# Altium footprint library TPS62A01.PcbLib: 1 footprints
Each footprint in its own frame and in the unit in brackets; x right, y up, seen from the top. Pads: shape width x height; smd on the part's side, far side on the other; paste and mask are expansions set on the pad; w line width, h text height; cw(c..) or ccw(c..) is an arc to the next point about the centre after c.
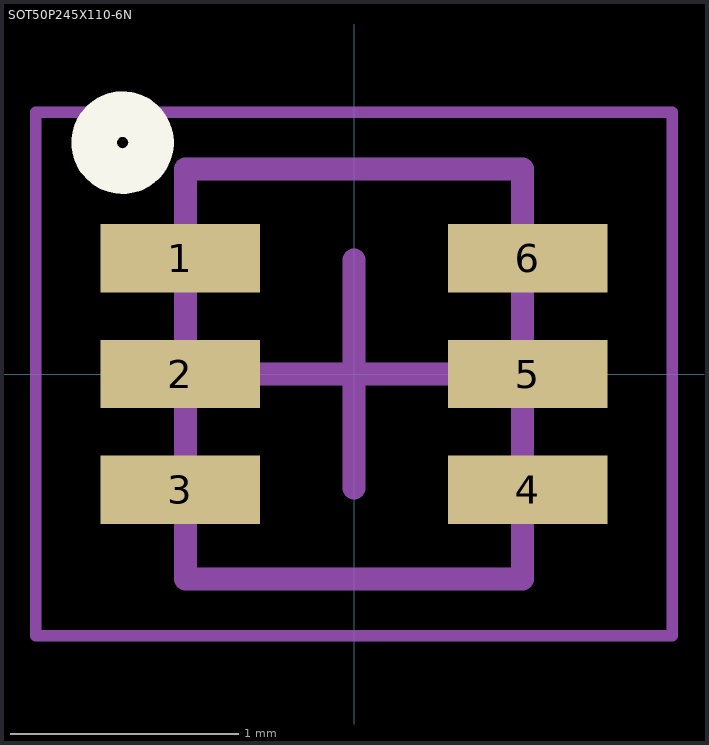
[diagram p0: the footprint, top view; thin cyan lines are the x and y axes]

## SOT50P245X110-6N [mm] "SOT23, 6-Leads, Body 1.80x2.45mm, Pitch 0.50mm, IPC Medium Density"
height 1.1
pads (6):
  rect 0.7x0.3 smd: 1(-0.762,0.508) 2(-0.762,0) 3(-0.762,-0.508) 4(0.762,-0.508) 5(0.762,0) 6(0.762,0.508)
Top Overlay:
  circle w0.2: c-1.016,1.016 r0.125
Mechanical 13:
  lines w0.1: -0.74,-0.9 0.74,-0.9 0.74,0.9 -0.74,0.9 -0.74,-0.9
Mechanical 15:
  lines w0.05: -1.397,-1.15 -1.397,1.15 1.397,1.15 1.397,-1.15 -1.397,-1.15
  lines w0.1: -0.5,0 0.5,0 ; 0,-0.5 0,0.5
3D body: height 1.1, standoff 0.05, extent -0.74,-0.9 0.74,0.9